# Altium footprint library TE_1546551-5.PcbLib: 1 footprints
Each footprint in its own frame and in the unit in brackets; x right, y up, seen from the top. Pads: shape width x height; smd on the part's side, far side on the other; paste and mask are expansions set on the pad; w line width, h text height; cw(c..) or ccw(c..) is an arc to the next point about the centre after c.
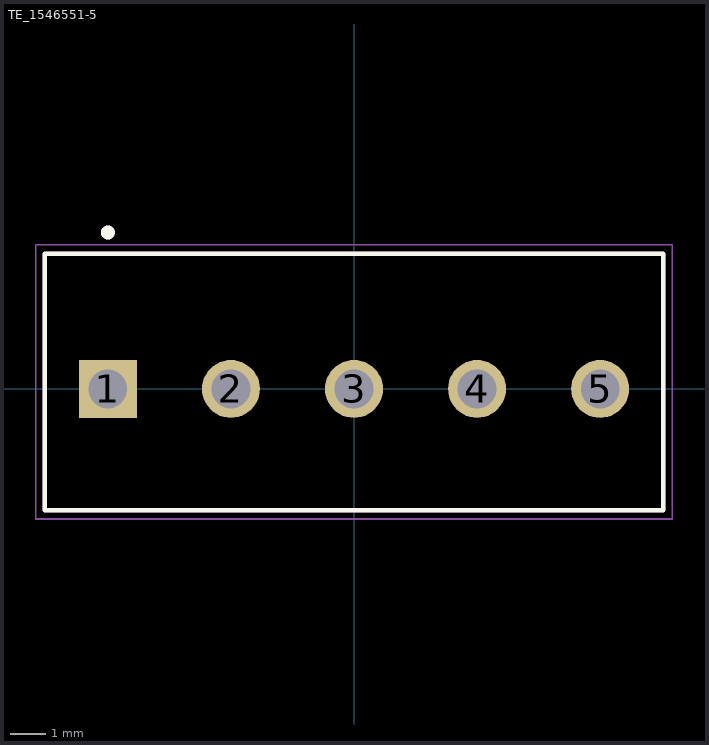
[diagram p0: the footprint, top view; thin cyan lines are the x and y axes]

## TE_1546551-5 [mm]
pads (5):
  rect 1.65x1.65 / inner round 1.65 / far side rect 1.65x1.65 hole 1.1: 1(-7,0)
  round 1.65 hole 1.1: 2(-3.5,0) 3(0,0) 4(3.5,0) 5(7,0)
Top Overlay:
  circle w0.2: c-7,4.45 r0.1
  lines w0.127: -8.8,-3.45 8.8,-3.45 8.8,3.85 -8.8,3.85 -8.8,-3.45
Assembly Top:
  circle w0.2: c-7,4.45 r0.1
  lines w0.127: -8.8,-3.45 8.8,-3.45 8.8,3.85 -8.8,3.85 -8.8,-3.45
Courtyard Top:
  lines w0.05: -9.05,-3.7 9.05,-3.7 9.05,4.1 -9.05,4.1 -9.05,-3.7
3D body "step_temp.STEP": height 9.1, standoff -2.9, extent -8.75,-3.363 8.75,3.937